# EAGLE library part HT42B534-2 (library ICs)
3Mbps USB UART UART NSOP-16 USB ICs ROHS
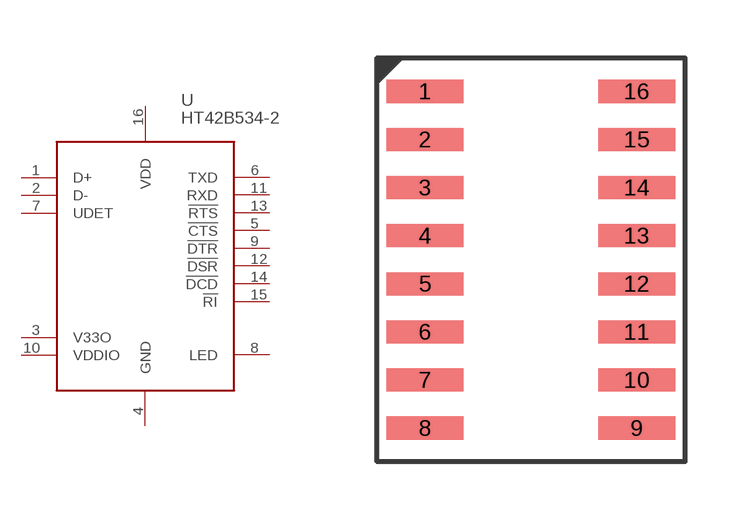
[diagram p339: symbol with the pads of SO16; footprint SO16]

Designator prefix U

## HT42B534-2 (HEIGHT: 1.5; LCSC: C493361; PRICE_PER: 0.68; VALUE: HT42B534-2)  [SO16]
1  D+
2  D-
3  V33O
4  GND
5  !CTS
6  TXD
7  UDET
8  LED
9  !DTR
10  VDDIO
11  RXD
12  !DSR
13  !RTS
14  !DCD
15  !RI
16  VDD

## Footprint SO16 (pad centres in mm)
smd 2 x 0.6: 1 -2.75,4.375; 2 -2.75,3.125; 3 -2.75,1.875; 4 -2.75,0.625; 5 -2.75,-0.625; 6 -2.75,-1.875; 7 -2.75,-3.125; 8 -2.75,-4.375; 9 2.75,-4.375; 10 2.75,-3.125; 11 2.75,-1.875; 12 2.75,-0.625; 13 2.75,0.625; 14 2.75,1.875; 15 2.75,3.125; 16 2.75,4.375